# EAGLE library part NCP187AMT330TAG (library SamacSys_Parts)
LDO Voltage Regulators 1.2A 3.3V Active discharge Source: Datasheet <https://componentsearchengine.com/Datasheets/1/NCP187AMT330TAG.pdf>
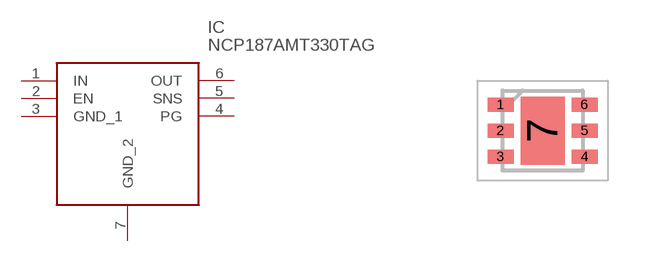
[diagram p4: symbol with the pads of SON65P200X200X80-7N; footprint SON65P200X200X80-7N]

Designator prefix IC

## NCP187AMT330TAG (DESCRIPTION: LDO Voltage Regulators 1.2A 3.3V Active discharge; HEIGHT: 0.8mm; MANUFACTURER_NAME: ON Semiconductor; MANUFACTURER_PART_NUMBER: NCP187AMT330TAG; MOUSER_PART_NUMBER: 863-NCP187AMT330TAG; MOUSER_PRICE-STOCK: https://www.mouser.co.uk/ProductDetail/ON-Semiconductor/NCP187AMT330TAG?qs=%252B6g0mu59x7JOII%252BWk4iw4Q%3D%3D)  [SON65P200X200X80-7N]
1  IN
2  EN
3  GND_1
4  PG
5  SNS
6  OUT
7  GND_2

## Footprint SON65P200X200X80-7N (pad centres in mm)
WDFN6 2x2, 0.65P*
smd 0.65 x 0.35: 1 -1.05,0.65; 2 -1.05,0; 3 -1.05,-0.65; 4 1.05,-0.65; 5 1.05,0; 6 1.05,0.65
smd 1.1 x 1.7: 7 0,0